# Altium footprint library FootPrintLib_5.PCBLIB: 254 footprints (part 8 of 16)
Each footprint in its own frame and in the unit in brackets; x right, y up, seen from the top. Pads: shape width x height; smd on the part's side, far side on the other; paste and mask are expansions set on the pad; w line width, h text height; cw(c..) or ccw(c..) is an arc to the next point about the centre after c.
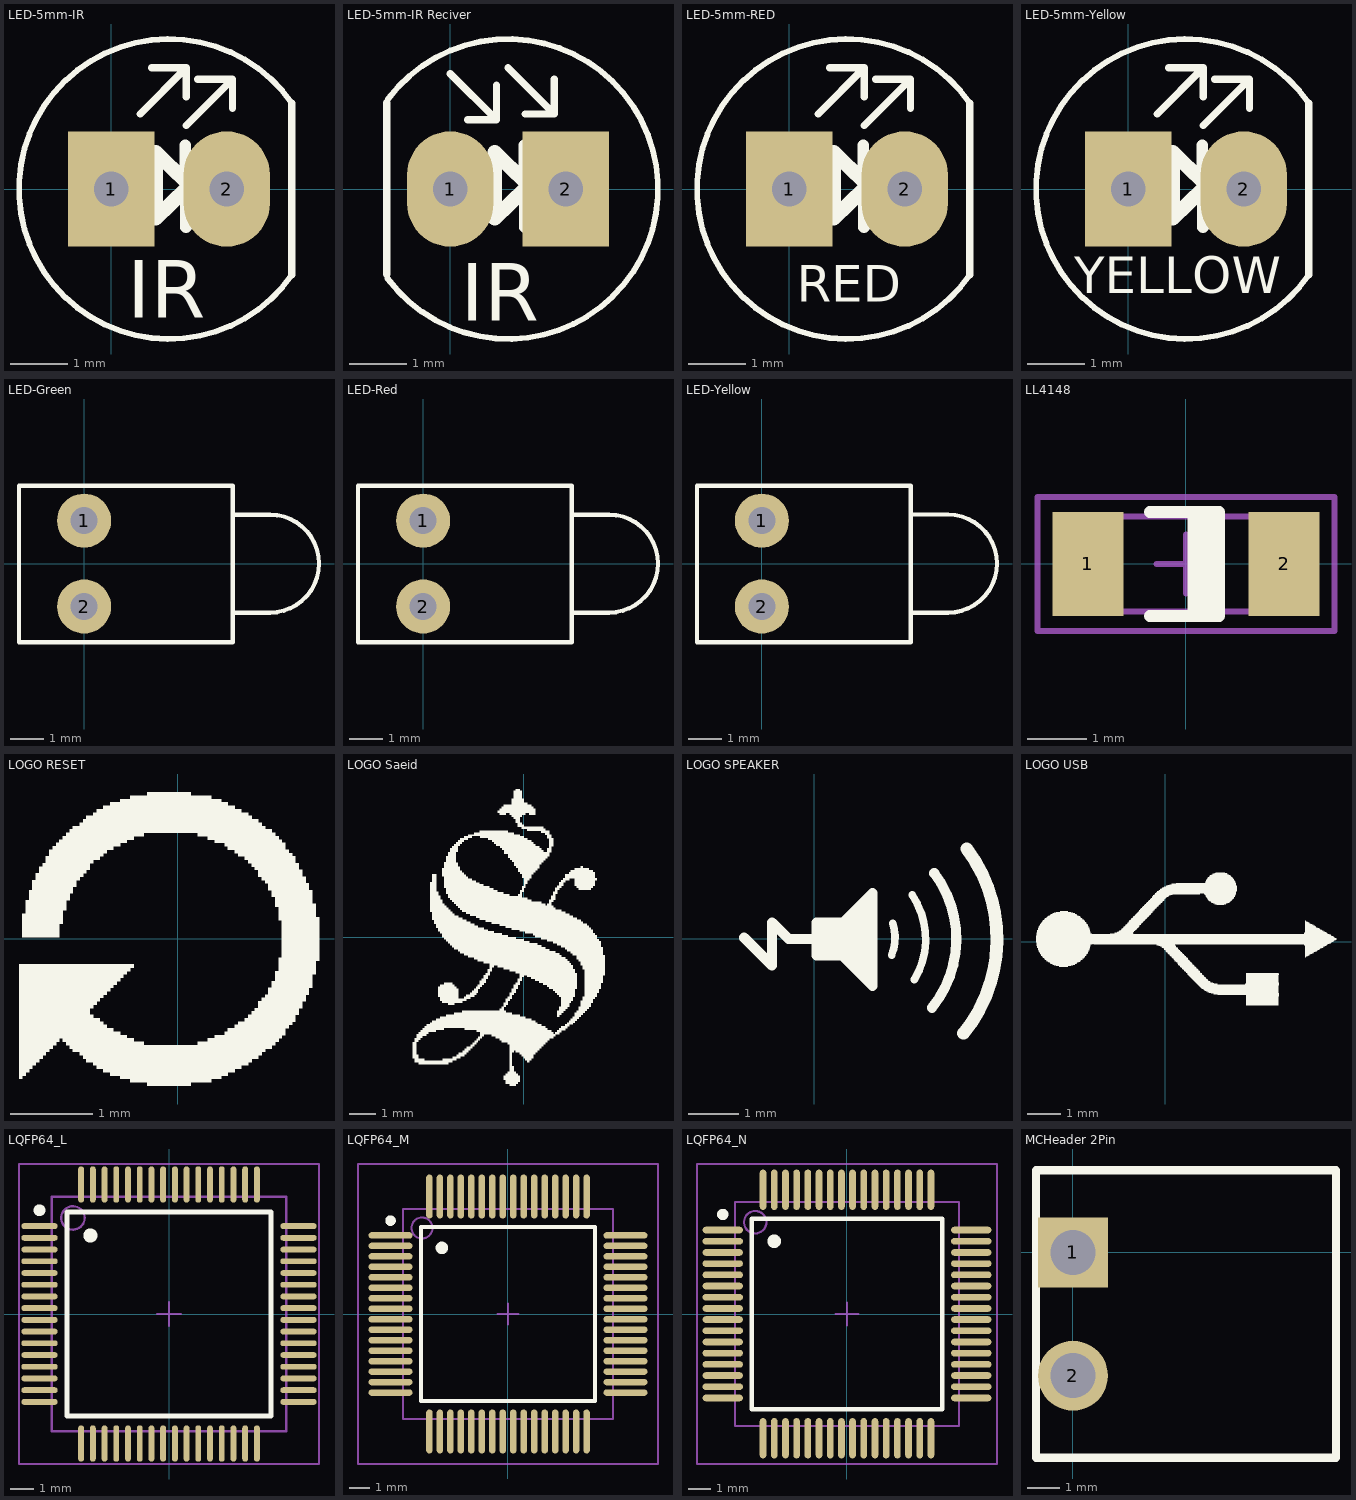
[diagram p7: the footprints below, top view; thin cyan lines are the x and y axes]

## LED-5mm-IR [mm]
pads (2):
  rect 1.5x2 hole 0.6: 1(0,0)
  oval 1.5x2 hole 0.6: 2(2,0)
Top Overlay:
  lines w0.1: 3.13,-1.491 cw(c1,0) 3.13,1.491
  lines w0.127: 0.5,1.3 1.3,2.1 ; 0.7,2.1 1.3,2.1 ; 1.3,1.1 2.1,1.9 ; 1.3,1.6 1.3,2.1 ; 1.5,1.9 2.1,1.9 ; 2.1,1.4 2.1,1.9 ; 3.13,-1.491 3.13,1.491
  lines w0.2: 1.278,0.762 1.295,-0.661
  lines w0.254: 1.295,0 0.77,-0.508 0.77,0.635 1.295,0.127
  text "IR" at 0.279,-2.235 h1

## LED-5mm-IR Reciver [mm]
pads (2):
  oval 1.5x2 hole 0.6: 1(0,0)
  rect 1.5x2 hole 0.6: 2(2,0)
Top Overlay:
  lines w0.1: -1.089,-1.548 ccw(c1,0) -1.08,1.56
  lines w0.127: -1.1,-1.483 -1.1,1.5 ; 0,2 0.8,1.2 ; 0.3,1.2 0.8,1.2 ; 0.8,1.8 0.8,1.2 ; 1,2.1 1.8,1.3 ; 1.3,1.3 1.8,1.3 ; 1.8,1.9 1.8,1.3
  lines w0.2: 1.278,0.762 1.295,-0.661
  lines w0.254: 1.295,0 0.77,-0.508 0.77,0.635 1.295,0.127
  text "IR" at 0.178,-2.286 h1

## LED-5mm-RED [mm]
pads (2):
  rect 1.5x2 hole 0.6: 1(0,0)
  oval 1.5x2 hole 0.6: 2(2,0)
Top Overlay:
  lines w0.1: 3.13,-1.491 cw(c1,0) 3.13,1.491
  lines w0.127: 0.5,1.3 1.3,2.1 ; 0.7,2.1 1.3,2.1 ; 1.3,1.1 2.1,1.9 ; 1.3,1.6 1.3,2.1 ; 1.5,1.9 2.1,1.9 ; 2.1,1.4 2.1,1.9 ; 3.13,-1.491 3.13,1.491
  lines w0.2: 1.278,0.762 1.295,-0.661
  lines w0.254: 1.295,0 0.77,-0.508 0.77,0.635 1.295,0.127
  text "RED" at 0.127,-1.956 h0.64

## LED-5mm-Yellow [mm]
pads (2):
  rect 1.5x2 hole 0.6: 1(0,0)
  oval 1.5x2 hole 0.6: 2(2,0)
Top Overlay:
  lines w0.1: 3.13,-1.491 cw(c1,0) 3.13,1.491
  lines w0.127: 0.5,1.3 1.3,2.1 ; 0.7,2.1 1.3,2.1 ; 1.3,1.1 2.1,1.9 ; 1.3,1.6 1.3,2.1 ; 1.5,1.9 2.1,1.9 ; 2.1,1.4 2.1,1.9 ; 3.13,-1.491 3.13,1.491
  lines w0.2: 1.278,0.762 1.295,-0.661
  lines w0.254: 1.295,0 0.77,-0.508 0.77,0.635 1.295,0.127
  text "YELLOW" at -0.94,-1.803 h0.64

## LED-Green [mm] "LED 3mm Right Angle - Color Green"
pads (2):
  round 1.6 hole 0.8: 1(0,1.27) 2(0,-1.27)
Top Overlay:
  lines w0.127: 4.4,-1.45 5.5,-1.45 ccw(c5.5,0) 5.5,1.45 4.4,1.45 ; -1.927,-2.323 4.4,-2.323 4.4,2.3 -1.927,2.3 -1.927,-2.323
3D body "LEDd3YC-Green.STEP": height 7.31, standoff -2.49, extent -1.927,-2.323 6.832,2.3

## LED-Red [mm] "LED 3mm Right Angle - Color Red"
pads (2):
  round 1.6 hole 0.8: 1(0,1.27) 2(0,-1.27)
Top Overlay:
  lines w0.127: 4.4,-1.45 5.5,-1.45 ccw(c5.5,0) 5.5,1.45 4.4,1.45 ; -1.927,-2.323 4.4,-2.323 4.4,2.3 -1.927,2.3 -1.927,-2.323
3D body "LEDd3YC-Red.STEP": height 7.31, standoff -2.49, extent -1.927,-2.323 6.832,2.3

## LED-Yellow [mm] "LED 3mm Right Angle - Color Yellow"
pads (2):
  round 1.6 hole 0.8: 1(0,1.27) 2(0,-1.27)
Top Overlay:
  lines w0.127: 4.4,-1.45 5.5,-1.45 ccw(c5.5,0) 5.5,1.45 4.4,1.45 ; -1.918,-2.323 -1.918,2.3 4.4,2.3 4.4,-2.323 -1.918,-2.323
3D body "LEDd3YC-Yellow.STEP": height 7.31, standoff -2.49, extent -1.927,-2.323 6.832,2.3

## LL4148 [mm] "MELF Diode, 2-Leads, Body 3.5x1.4mm, IPC Medium Density"
height 1.6
pads (2):
  rect 1.2x1.75 smd: 1(-1.65,0) 2(1.65,0)
Top Overlay:
  region: 0.573,0.875 0.023,0.875 0.023,-0.875 0.573,-0.875
  lines w0.2: -0.61,-0.875 0.559,-0.875 0.559,0.875 -0.61,0.875
Mechanical 13:
  rectangle: -1.85,-0.8 -1.352,0.8
  lines w0.1: -1.85,-0.8 1.85,-0.8 1.85,0.8 -1.85,0.8 -1.85,-0.8
Mechanical 15:
  lines w0.1: -0.5,0 0.5,0 ; 0,-0.5 0,0.5 ; -2.5,-1.125 2.5,-1.125 2.5,1.125 -2.5,1.125 -2.5,-1.125
3D body "User Library-Diode MELF.STEP": height 1.55, standoff 0.05, extent -1.775,-0.75 1.725,0.75

## LOGO RESET [mm]
Top Overlay:
  drawing of 1 lines, arcs and shapes, not listed

## LOGO Saeid [mm]
Top Overlay:
  drawing of 3 lines, arcs and shapes, not listed
Top Solder:
  drawing of 3 lines, arcs and shapes, not listed

## LOGO SPEAKER [mm]
Top Overlay:
  lines w0.152: 1.552,-0.324 ccw(c0.686,0.025) 1.574,0.314 ; 1.964,0.879 cw(c0.66,0) 2.008,-0.81
  lines w0.203: -1.397,0.025 -0.838,-0.533 -0.838,0.33 -0.508,0 0,0 ; 0.102,-0.178 0.508,-0.178 ; 0.102,-0.025 0.559,-0.025 ; 0.102,0.152 0.66,0.152 ; 0.508,-0.33 0.051,-0.33 0.051,0.33 0.559,0.33 0.559,-0.33 1.168,-0.94 1.168,0.914 0.559,0.305 ; 0.914,-0.432 0.914,0.432 ; 0.965,-0.508 0.737,-0.279 0.737,0.279 1.067,0.61 1.067,-0.66 ; 2.359,-1.376 ccw(c0.66,0) 2.406,1.315
  lines w0.254: 2.991,-1.888 ccw(c0.66,0) 3.056,1.805

## LOGO USB [mm]
Top Overlay:
  drawing of 1 lines, arcs and shapes, not listed

## LQFP64_L [mm] "Thin QFP, 64-Leads, Body 10x10mm, Pitch 0.5mm, IPC High Density"
height 1.6
pads (64):
  oval 1.55x0.25 smd: 1(-5.525,3.75) 2(-5.525,3.25) 3(-5.525,2.75) 4(-5.525,2.25) 5(-5.525,1.75) 6(-5.525,1.25) 7(-5.525,0.75) 8(-5.525,0.25) 9(-5.525,-0.25) 10(-5.525,-0.75) 11(-5.525,-1.25) 12(-5.525,-1.75) 13(-5.525,-2.25) 14(-5.525,-2.75) 15(-5.525,-3.25) 16(-5.525,-3.75) 33(5.525,-3.75) 34(5.525,-3.25) 35(5.525,-2.75) 36(5.525,-2.25) 37(5.525,-1.75) 38(5.525,-1.25) 39(5.525,-0.75) 40(5.525,-0.25) 41(5.525,0.25) 42(5.525,0.75) 43(5.525,1.25) 44(5.525,1.75) 45(5.525,2.25) 46(5.525,2.75) 47(5.525,3.25) 48(5.525,3.75)
  oval 0.25x1.55 smd: 17(-3.75,-5.525) 18(-3.25,-5.525) 19(-2.75,-5.525) 20(-2.25,-5.525) 21(-1.75,-5.525) 22(-1.25,-5.525) 23(-0.75,-5.525) 24(-0.25,-5.525) 25(0.25,-5.525) 26(0.75,-5.525) 27(1.25,-5.525) 28(1.75,-5.525) 29(2.25,-5.525) 30(2.75,-5.525) 31(3.25,-5.525) 32(3.75,-5.525) 49(3.75,5.525) 50(3.25,5.525) 51(2.75,5.525) 52(2.25,5.525) 53(1.75,5.525) 54(1.25,5.525) 55(0.75,5.525) 56(0.25,5.525) 57(-0.25,5.525) 58(-0.75,5.525) 59(-1.25,5.525) 60(-1.75,5.525) 61(-2.25,5.525) 62(-2.75,5.525) 63(-3.25,5.525) 64(-3.75,5.525)
Top Overlay:
  circle w0.25: c-5.525,4.425 r0.125
  circle w0.4: c-3.35,3.35 r0.1
  lines w0.2: -4.35,-4.35 -4.35,4.35 4.35,4.35 4.35,-4.35 -4.35,-4.35
Mechanical 13:
  circle w0.1: c-4.1,4.1 r0.5
  lines w0.1: -5,-5 -5,5 5,5 5,-5 -5,-5
Mechanical 15:
  lines w0.1: -0.5,0 0.5,0 ; 0,-0.5 0,0.5 ; -6.4,-6.4 -6.4,6.4 6.4,6.4 6.4,-6.4 -6.4,-6.4
3D body "LQFP-64 _ AT91SAM7S64.STEP": height 1.7, standoff -0.01, extent -6,-6 6,6

## LQFP64_M [mm] "Thin QFP, 64-Leads, Body 10x10mm, Pitch 0.5mm, IPC Low Density"
height 1.6
pads (64):
  oval 2.1x0.3 smd: 1(-5.6,3.75) 2(-5.6,3.25) 3(-5.6,2.75) 4(-5.6,2.25) 5(-5.6,1.75) 6(-5.6,1.25) 7(-5.6,0.75) 8(-5.6,0.25) 9(-5.6,-0.25) 10(-5.6,-0.75) 11(-5.6,-1.25) 12(-5.6,-1.75) 13(-5.6,-2.25) 14(-5.6,-2.75) 15(-5.6,-3.25) 16(-5.6,-3.75) 33(5.6,-3.75) 34(5.6,-3.25) 35(5.6,-2.75) 36(5.6,-2.25) 37(5.6,-1.75) 38(5.6,-1.25) 39(5.6,-0.75) 40(5.6,-0.25) 41(5.6,0.25) 42(5.6,0.75) 43(5.6,1.25) 44(5.6,1.75) 45(5.6,2.25) 46(5.6,2.75) 47(5.6,3.25) 48(5.6,3.75)
  oval 0.3x2.1 smd: 17(-3.75,-5.6) 18(-3.25,-5.6) 19(-2.75,-5.6) 20(-2.25,-5.6) 21(-1.75,-5.6) 22(-1.25,-5.6) 23(-0.75,-5.6) 24(-0.25,-5.6) 25(0.25,-5.6) 26(0.75,-5.6) 27(1.25,-5.6) 28(1.75,-5.6) 29(2.25,-5.6) 30(2.75,-5.6) 31(3.25,-5.6) 32(3.75,-5.6) 49(3.75,5.6) 50(3.25,5.6) 51(2.75,5.6) 52(2.25,5.6) 53(1.75,5.6) 54(1.25,5.6) 55(0.75,5.6) 56(0.25,5.6) 57(-0.25,5.6) 58(-0.75,5.6) 59(-1.25,5.6) 60(-1.75,5.6) 61(-2.25,5.6) 62(-2.75,5.6) 63(-3.25,5.6) 64(-3.75,5.6)
Top Overlay:
  circle w0.25: c-5.6,4.45 r0.125
  circle w0.4: c-3.15,3.15 r0.1
  lines w0.2: -4.15,-4.15 -4.15,4.15 4.15,4.15 4.15,-4.15 -4.15,-4.15
Mechanical 13:
  circle w0.1: c-4.1,4.1 r0.5
  lines w0.1: -5,-5 -5,5 5,5 5,-5 -5,-5
Mechanical 15:
  lines w0.1: -0.5,0 0.5,0 ; 0,-0.5 0,0.5 ; -7.15,-7.15 -7.15,7.15 7.15,7.15 7.15,-7.15 -7.15,-7.15
3D body "LQFP-64 _ AT91SAM7S64.STEP": height 1.7, standoff -0.01, extent -6,-6 6,6

## LQFP64_N [mm] "Thin QFP, 64-Leads, Body 10x10mm, Pitch 0.5mm, IPC Medium Density"
height 1.6
pads (64):
  oval 1.8x0.3 smd: 1(-5.55,3.75) 2(-5.55,3.25) 3(-5.55,2.75) 4(-5.55,2.25) 5(-5.55,1.75) 6(-5.55,1.25) 7(-5.55,0.75) 8(-5.55,0.25) 9(-5.55,-0.25) 10(-5.55,-0.75) 11(-5.55,-1.25) 12(-5.55,-1.75) 13(-5.55,-2.25) 14(-5.55,-2.75) 15(-5.55,-3.25) 16(-5.55,-3.75) 33(5.55,-3.75) 34(5.55,-3.25) 35(5.55,-2.75) 36(5.55,-2.25) 37(5.55,-1.75) 38(5.55,-1.25) 39(5.55,-0.75) 40(5.55,-0.25) 41(5.55,0.25) 42(5.55,0.75) 43(5.55,1.25) 44(5.55,1.75) 45(5.55,2.25) 46(5.55,2.75) 47(5.55,3.25) 48(5.55,3.75)
  oval 0.3x1.8 smd: 17(-3.75,-5.55) 18(-3.25,-5.55) 19(-2.75,-5.55) 20(-2.25,-5.55) 21(-1.75,-5.55) 22(-1.25,-5.55) 23(-0.75,-5.55) 24(-0.25,-5.55) 25(0.25,-5.55) 26(0.75,-5.55) 27(1.25,-5.55) 28(1.75,-5.55) 29(2.25,-5.55) 30(2.75,-5.55) 31(3.25,-5.55) 32(3.75,-5.55) 49(3.75,5.55) 50(3.25,5.55) 51(2.75,5.55) 52(2.25,5.55) 53(1.75,5.55) 54(1.25,5.55) 55(0.75,5.55) 56(0.25,5.55) 57(-0.25,5.55) 58(-0.75,5.55) 59(-1.25,5.55) 60(-1.75,5.55) 61(-2.25,5.55) 62(-2.75,5.55) 63(-3.25,5.55) 64(-3.75,5.55)
Top Overlay:
  circle w0.25: c-5.55,4.45 r0.125
  circle w0.4: c-3.25,3.25 r0.1
  lines w0.2: -4.25,-4.25 -4.25,4.25 4.25,4.25 4.25,-4.25 -4.25,-4.25
Mechanical 13:
  circle w0.1: c-4.1,4.1 r0.5
  lines w0.1: -5,-5 -5,5 5,5 5,-5 -5,-5
Mechanical 15:
  lines w0.1: -0.5,0 0.5,0 ; 0,-0.5 0,0.5 ; -6.7,-6.7 -6.7,6.7 6.7,6.7 6.7,-6.7 -6.7,-6.7
3D body "LQFP-64 _ AT91SAM7S64.STEP": height 1.7, standoff -0.01, extent -6,-6 6,6

## MCHeader 2Pin [mil]
pads (2):
  rect 85x85 hole 55: 1(0,0)
  round 85 hole 55: 2(0,-150)
Top Overlay:
  lines w10: -45,-250 -45,100 320,100 320,-250 -45,-250
3D body "mini combicon header 2pin.STEP": height 292.32, standoff -130.12, extent -43.09,-247.85 321.09,99